# Altium footprint library LBT_Borad_v0.0.0.0.PcbLib: 2 footprints
Each footprint in its own frame and in the unit in brackets; x right, y up, seen from the top. Pads: shape width x height; smd on the part's side, far side on the other; paste and mask are expansions set on the pad; w line width, h text height; cw(c..) or ccw(c..) is an arc to the next point about the centre after c.
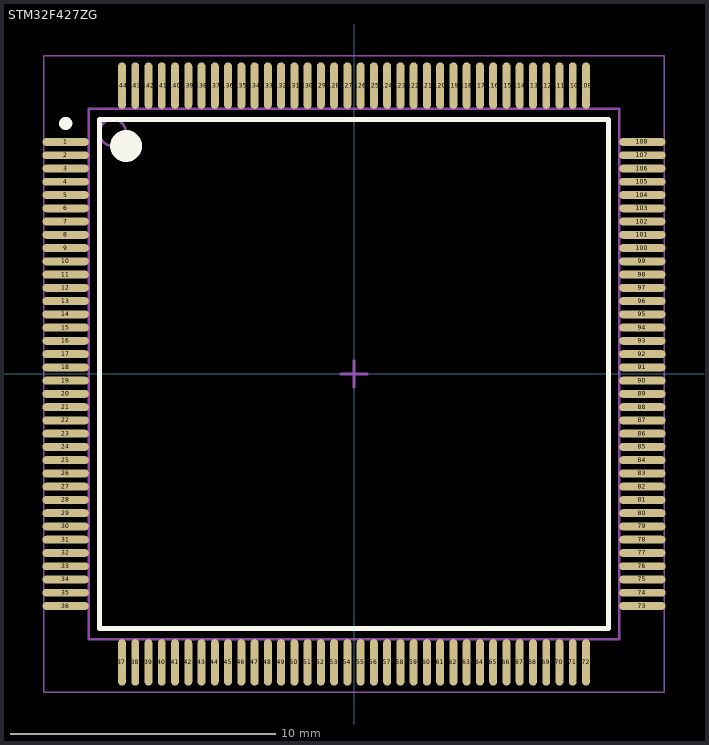
[diagram p0: the footprints below, top view; thin cyan lines are the x and y axes]

## PCBComponent_1 [mm]

## STM32F427ZG [mm] "TSQFP, 144-Leads, Body 20.00x20.00mm, Pitch 0.50mm, IPC Medium Density"
height 1.6
pads (144):
  oval 1.75x0.3 smd: 1(-10.875,8.75) 2(-10.875,8.25) 3(-10.875,7.75) 4(-10.875,7.25) 5(-10.875,6.75) 6(-10.875,6.25) 7(-10.875,5.75) 8(-10.875,5.25) 9(-10.875,4.75) 10(-10.875,4.25) 11(-10.875,3.75) 12(-10.875,3.25) 13(-10.875,2.75) 14(-10.875,2.25) 15(-10.875,1.75) 16(-10.875,1.25) 17(-10.875,0.75) 18(-10.875,0.25) 19(-10.875,-0.25) 20(-10.875,-0.75) 21(-10.875,-1.25) 22(-10.875,-1.75) 23(-10.875,-2.25) 24(-10.875,-2.75) 25(-10.875,-3.25) 26(-10.875,-3.75) 27(-10.875,-4.25) 28(-10.875,-4.75) 29(-10.875,-5.25) 30(-10.875,-5.75) 31(-10.875,-6.25) 32(-10.875,-6.75) 33(-10.875,-7.25) 34(-10.875,-7.75) 35(-10.875,-8.25) 36(-10.875,-8.75) 73(10.875,-8.75) 74(10.875,-8.25) 75(10.875,-7.75) 76(10.875,-7.25) 77(10.875,-6.75) 78(10.875,-6.25) 79(10.875,-5.75) 80(10.875,-5.25) 81(10.875,-4.75) 82(10.875,-4.25) 83(10.875,-3.75) 84(10.875,-3.25) 85(10.875,-2.75) 86(10.875,-2.25) 87(10.875,-1.75) 88(10.875,-1.25) 89(10.875,-0.75) 90(10.875,-0.25) 91(10.875,0.25) 92(10.875,0.75) 93(10.875,1.25) 94(10.875,1.75) 95(10.875,2.25) 96(10.875,2.75) 97(10.875,3.25) 98(10.875,3.75) 99(10.875,4.25) 100(10.875,4.75) 101(10.875,5.25) 102(10.875,5.75) 103(10.875,6.25) 104(10.875,6.75) 105(10.875,7.25) 106(10.875,7.75) 107(10.875,8.25) 108(10.875,8.75)
  oval 0.3x1.75 smd: 37(-8.75,-10.875) 38(-8.25,-10.875) 39(-7.75,-10.875) 40(-7.25,-10.875) 41(-6.75,-10.875) 42(-6.25,-10.875) 43(-5.75,-10.875) 44(-5.25,-10.875) 45(-4.75,-10.875) 46(-4.25,-10.875) 47(-3.75,-10.875) 48(-3.25,-10.875) 49(-2.75,-10.875) 50(-2.25,-10.875) 51(-1.75,-10.875) 52(-1.25,-10.875) 53(-0.75,-10.875) 54(-0.25,-10.875) 55(0.25,-10.875) 56(0.75,-10.875) 57(1.25,-10.875) 58(1.75,-10.875) 59(2.25,-10.875) 60(2.75,-10.875) 61(3.25,-10.875) 62(3.75,-10.875) 63(4.25,-10.875) 64(4.75,-10.875) 65(5.25,-10.875) 66(5.75,-10.875) 67(6.25,-10.875) 68(6.75,-10.875) 69(7.25,-10.875) 70(7.75,-10.875) 71(8.25,-10.875) 72(8.75,-10.875) 109(8.75,10.875) 110(8.25,10.875) 111(7.75,10.875) 112(7.25,10.875) 113(6.75,10.875) 114(6.25,10.875) 115(5.75,10.875) 116(5.25,10.875) 117(4.75,10.875) 118(4.25,10.875) 119(3.75,10.875) 120(3.25,10.875) 121(2.75,10.875) 122(2.25,10.875) 123(1.75,10.875) 124(1.25,10.875) 125(0.75,10.875) 126(0.25,10.875) 127(-0.25,10.875) 128(-0.75,10.875) 129(-1.25,10.875) 130(-1.75,10.875) 131(-2.25,10.875) 132(-2.75,10.875) 133(-3.25,10.875) 134(-3.75,10.875) 135(-4.25,10.875) 136(-4.75,10.875) 137(-5.25,10.875) 138(-5.75,10.875) 139(-6.25,10.875) 140(-6.75,10.875) 141(-7.25,10.875) 142(-7.75,10.875) 143(-8.25,10.875) 144(-8.75,10.875)
Top Overlay:
  circle w0.6: c-8.6,8.6 r0.3
  circle w0.25: c-10.875,9.45 r0.125
  lines w0.2: -9.6,-9.6 9.6,-9.6 9.6,9.6 -9.6,9.6 -9.6,-9.6
Mechanical 13:
  circle w0.1: c-9.1,9.1 r0.5
  lines w0.1: -10,-10 10,-10 10,10 -10,10 -10,-10
Mechanical 15:
  lines w0.05: -11.7,-12 11.7,-12 11.7,12 -11.7,12 -11.7,-12
  lines w0.1: -0.5,0 0.5,0 ; 0,-0.5 0,0.5
3D body: height 1.6, standoff 0.05, extent -10,-10 10,10